# Altium schematic symbol library ABM10-32.000MHZ-8-7-A15-T.Schlib: 1 symbol
Pins are listed as number, name and electrical type; pins without a type are passive.

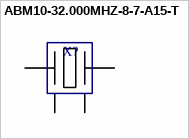
[diagram p0: symbol ABM10-32.000MHZ-8-7-A15-T]

## ABM10-32.000MHZ-8-7-A15-T
designator X?, comment Xtal  (value not drawn)
XTAL SMT 2.5x2.0mm 32MHz
pins: 2, 2, 4, 4